# EAGLE library part NRF24L01 (library myFab)
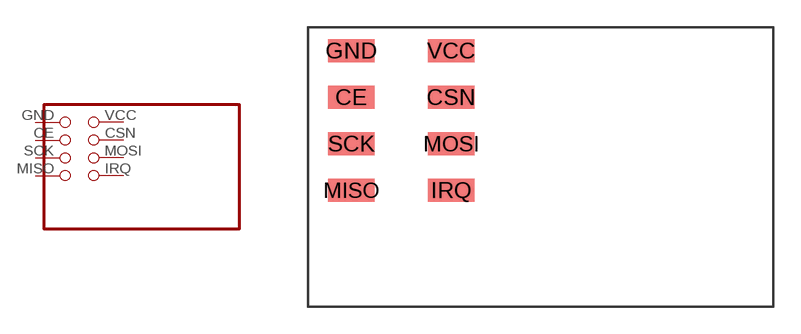
[diagram p26: symbol with the pads of NRF24L01; footprint NRF24L01]

Designator prefix -

## NRF24L01  [NRF24L01]
CE  CE  pas
CSN  CSN  pas
GND  GND  pas
IRQ  IRQ  pas
MISO  MISO  pas
MOSI  MOSI  pas
SCK  SCK  pas
VCC  VCC  pas

## Footprint NRF24L01 (pad centres in mm)
smd 2.54 x 1.27: CE -2.731,5.08; CSN 2.731,5.08; GND -2.731,7.62; IRQ 2.731,0; MISO -2.731,0; MOSI 2.731,2.54; SCK -2.731,2.54; VCC 2.731,7.62